# Altium schematic symbol library 04021JR05ZBSTR.SchLib: 2 symbols
Pins are listed as number, name and electrical type; pins without a type are passive.

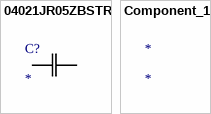
[diagram p0: symbols 04021JR05ZBSTR to Component_1]

## 04021JR05ZBSTR
designator C?
No Description Available; Mfr_Name: KYOCERA AVX
footprint CAP_0402_1XP55_AVX
pins: 1, 2

## Component_1
designator *